# EAGLE library part RB1-125BHQ1A (library LAN-Edison)
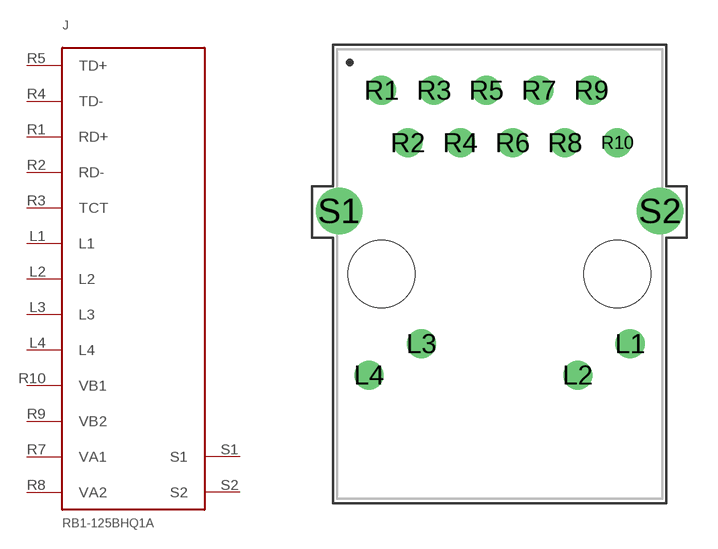
[diagram p1: symbol with the pads of RB1-125BHQ1A; footprint RB1-125BHQ1A]

Designator prefix J

## RB1-125BHQ1A  [RB1-125BHQ1A]
L1  L1  in
L2  L2  out
L3  L3  in
L4  L4  out
R1  RD+  out
R2  RD-  out
R3  TCT  out
R4  TD-  out
R5  TD+  out
R7  VA1  out
R8  VA2  out
R9  VB2  out
R10  VB1  out
S1  S1
S2  S2

## Footprint RB1-125BHQ1A (pad centres in mm)
drill 0.9: L1 6.325,-3.38; L2 3.785,-4.9; L3 -3.785,-3.38; L4 -6.325,-4.9; R1 -5.715,8.89; R2 -4.445,6.35; R3 -3.175,8.89; R4 -1.905,6.35; R5 -0.635,8.89; R6 0.635,6.35; R7 1.905,8.89; R8 3.175,6.35; R9 4.445,8.89; R10 5.715,6.35
drill 1.5: S1 -7.775,3.05; S2 7.775,3.05
hole 3.25 at -5.715,0
hole 3.25 at 5.715,0